# Altium schematic symbol library TEST_POINT_PAD1MM.SchLib: 1 symbol
Pins are listed as number, name and electrical type; pins without a type are passive.

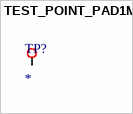
[diagram p0: symbol TEST_POINT_PAD1MM]

## TEST_POINT_PAD1MM
designator TP?  (no BOM)
footprint ROUND_1MM
footprint RECTANGULAR_1MM
pins: 1